# EAGLE library part MTI85W100GC (library IC)
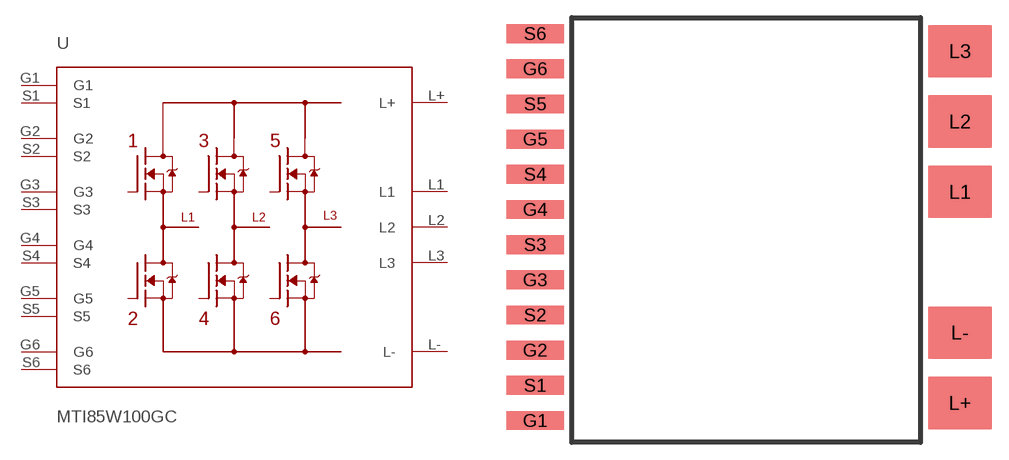
[diagram p2: symbol with the pads of ISOPLUS-DIL; footprint ISOPLUS-DIL]

Designator prefix U

## MTI85W100GC  [ISOPLUS-DIL]
G1  G1  in
G2  G2  in
G3  G3  in
G4  G4  in
G5  G5  in
G6  G6  in
L1  L1  out
L2  L2  out
L3  L3  out
L+  L+  pwr
L-  L-  pwr
S1  S1  in
S2  S2  in
S3  S3  in
S4  S4  in
S5  S5  in
S6  S6  in

## Footprint ISOPLUS-DIL (pad centres in mm)
smd 5 x 1.6: G1 0.135,0.02; G2 0.135,6.02; G3 0.135,12.02; G4 0.135,18.02; G5 0.135,24.02; G6 0.135,30.02; S1 0.135,3.02; S2 0.135,9.02; S3 0.135,15.02; S4 0.135,21.02; S5 0.135,27.02; S6 0.135,33.02
smd 5.5 x 4.5: L1 36.385,19.52; L2 36.385,25.52; L3 36.385,31.52; L+ 36.385,1.52; L- 36.385,7.52